# EAGLE library part LTC2754BCUKG-16PBF (library open_covg)
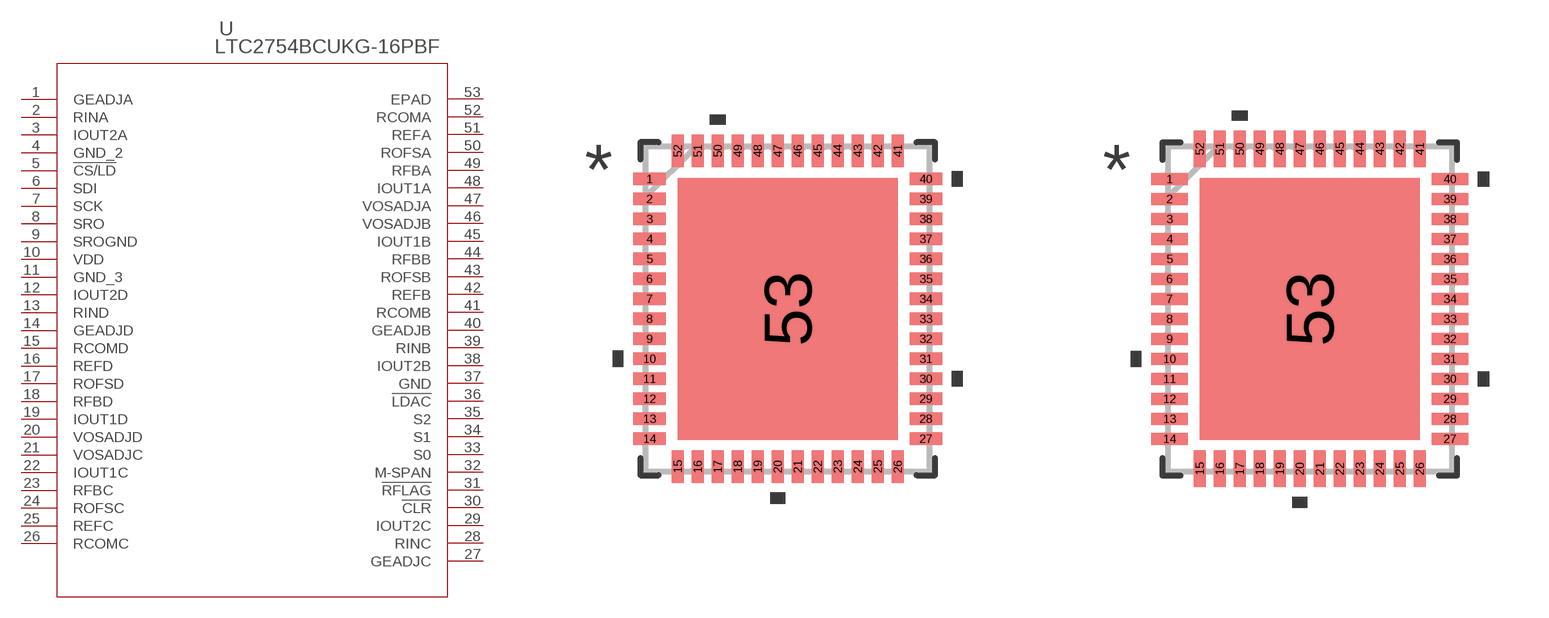
[diagram p1: symbol with the pads of QFN-52_UKG; footprints QFN-52_UKG, QFN-52_UKG-M]

Designator prefix U

## LTC2754BCUKG-16PBF (MANUFACTURER_PART_NUMBER: LTC2754BCUKG16#PBF; VENDOR: Linear Technology)  [QFN-52_UKG]
1  GEADJA  pas
2  RINA  in
3  IOUT2A  out
4  GND_2  pwr
5  !CS/LD  pas
6  SDI  in
7  SCK  pas
8  SRO  out
9  SROGND  pwr
10  VDD  pwr
11  GND_3  pwr
12  IOUT2D  out
13  RIND  in
14  GEADJD  pas
15  RCOMD  pas
16  REFD  pas
17  ROFSD  out
18  RFBD  out
19  IOUT1D  out
20  VOSADJD  pas
21  VOSADJC  pas
22  IOUT1C  out
23  RFBC  out
24  ROFSC  out
25  REFC  pas
26  RCOMC  pas
27  GEADJC  pas
28  RINC  in
29  IOUT2C  out
30  !CLR  out
31  !RFLAG  out
32  M-SPAN  pas
33  S0  out
34  S1  out
35  S2  out
36  !LDAC  in
37  GND  pwr
38  IOUT2B  out
39  RINB  in
40  GEADJB  pas
41  RCOMB  pas
42  REFB  pas
43  ROFSB  out
44  RFBB  out
45  IOUT1B  out
46  VOSADJB  out
47  VOSADJA  pas
48  IOUT1A  out
49  RFBA  out
50  ROFSA  out
51  REFA  out
52  RCOMA  pas
53  EPAD  pas

## LTC2754BCUKG-16PBFQFN-52_UKG-M (MANUFACTURER_PART_NUMBER: LTC2754BCUKG16#PBF; VENDOR: Linear Technology)  [QFN-52_UKG-M]
Pads as for QFN-52_UKG

## LTC2754BCUKG-16PBFQFN-52_UKG-L (MANUFACTURER_PART_NUMBER: LTC2754BCUKG16#PBF; VENDOR: Linear Technology)  [QFN-52_UKG-L]
Pads as for QFN-52_UKG

## Footprint QFN-52_UKG (pad centres in mm)
smd 0.813 x 0.305: 1 -3.454,3.25; 2 -3.454,2.75; 3 -3.454,2.25; 4 -3.454,1.75; 5 -3.454,1.25; 6 -3.454,0.75; 7 -3.454,0.25; 8 -3.454,-0.25; 9 -3.454,-0.75; 10 -3.454,-1.25; 11 -3.454,-1.75; 12 -3.454,-2.25; 13 -3.454,-2.75; 14 -3.454,-3.25; 27 3.454,-3.25; 28 3.454,-2.75; 29 3.454,-2.25; 30 3.454,-1.75; 31 3.454,-1.25; 32 3.454,-0.75; 33 3.454,-0.25; 34 3.454,0.25; 35 3.454,0.75; 36 3.454,1.25; 37 3.454,1.75; 38 3.454,2.25; 39 3.454,2.75; 40 3.454,3.25
smd 0.305 x 0.813: 15 -2.75,-3.95; 16 -2.25,-3.95; 17 -1.75,-3.95; 18 -1.25,-3.95; 19 -0.75,-3.95; 20 -0.25,-3.95; 21 0.25,-3.95; 22 0.75,-3.95; 23 1.25,-3.95; 24 1.75,-3.95; 25 2.25,-3.95; 26 2.75,-3.95; 41 2.75,3.95; 42 2.25,3.95; 43 1.75,3.95; 44 1.25,3.95; 45 0.75,3.95; 46 0.25,3.95; 47 -0.25,3.95; 48 -0.75,3.95; 49 -1.25,3.95; 50 -1.75,3.95; 51 -2.25,3.95; 52 -2.75,3.95
smd 5.51 x 6.55: 53 0,0

## Footprint QFN-52_UKG-M (pad centres in mm)
smd 0.914 x 0.305: 1 -3.505,3.25; 2 -3.505,2.75; 3 -3.505,2.25; 4 -3.505,1.75; 5 -3.505,1.25; 6 -3.505,0.75; 7 -3.505,0.25; 8 -3.505,-0.25; 9 -3.505,-0.75; 10 -3.505,-1.25; 11 -3.505,-1.75; 12 -3.505,-2.25; 13 -3.505,-2.75; 14 -3.505,-3.25; 27 3.505,-3.25; 28 3.505,-2.75; 29 3.505,-2.25; 30 3.505,-1.75; 31 3.505,-1.25; 32 3.505,-0.75; 33 3.505,-0.25; 34 3.505,0.25; 35 3.505,0.75; 36 3.505,1.25; 37 3.505,1.75; 38 3.505,2.25; 39 3.505,2.75; 40 3.505,3.25
smd 0.305 x 0.914: 15 -2.75,-4; 16 -2.25,-4; 17 -1.75,-4; 18 -1.25,-4; 19 -0.75,-4; 20 -0.25,-4; 21 0.25,-4; 22 0.75,-4; 23 1.25,-4; 24 1.75,-4; 25 2.25,-4; 26 2.75,-4; 41 2.75,4; 42 2.25,4; 43 1.75,4; 44 1.25,4; 45 0.75,4; 46 0.25,4; 47 -0.25,4; 48 -0.75,4; 49 -1.25,4; 50 -1.75,4; 51 -2.25,4; 52 -2.75,4
smd 5.51 x 6.55: 53 0,0

## Footprint QFN-52_UKG-L (pad centres in mm)
smd 0.711 x 0.305: 1 -3.404,3.25; 2 -3.404,2.75; 3 -3.404,2.25; 4 -3.404,1.75; 5 -3.404,1.25; 6 -3.404,0.75; 7 -3.404,0.25; 8 -3.404,-0.25; 9 -3.404,-0.75; 10 -3.404,-1.25; 11 -3.404,-1.75; 12 -3.404,-2.25; 13 -3.404,-2.75; 14 -3.404,-3.25; 27 3.404,-3.25; 28 3.404,-2.75; 29 3.404,-2.25; 30 3.404,-1.75; 31 3.404,-1.25; 32 3.404,-0.75; 33 3.404,-0.25; 34 3.404,0.25; 35 3.404,0.75; 36 3.404,1.25; 37 3.404,1.75; 38 3.404,2.25; 39 3.404,2.75; 40 3.404,3.25
smd 0.305 x 0.711: 15 -2.75,-3.899; 16 -2.25,-3.899; 17 -1.75,-3.899; 18 -1.25,-3.899; 19 -0.75,-3.899; 20 -0.25,-3.899; 21 0.25,-3.899; 22 0.75,-3.899; 23 1.25,-3.899; 24 1.75,-3.899; 25 2.25,-3.899; 26 2.75,-3.899; 41 2.75,3.899; 42 2.25,3.899; 43 1.75,3.899; 44 1.25,3.899; 45 0.75,3.899; 46 0.25,3.899; 47 -0.25,3.899; 48 -0.75,3.899; 49 -1.25,3.899; 50 -1.75,3.899; 51 -2.25,3.899; 52 -2.75,3.899
smd 5.51 x 6.55: 53 0,0